# Altium footprint library PcbLib.PcbLib: 18 footprints (part 1 of 2)
Each footprint in its own frame and in the unit in brackets; x right, y up, seen from the top. Pads: shape width x height; smd on the part's side, far side on the other; paste and mask are expansions set on the pad; w line width, h text height; cw(c..) or ccw(c..) is an arc to the next point about the centre after c.
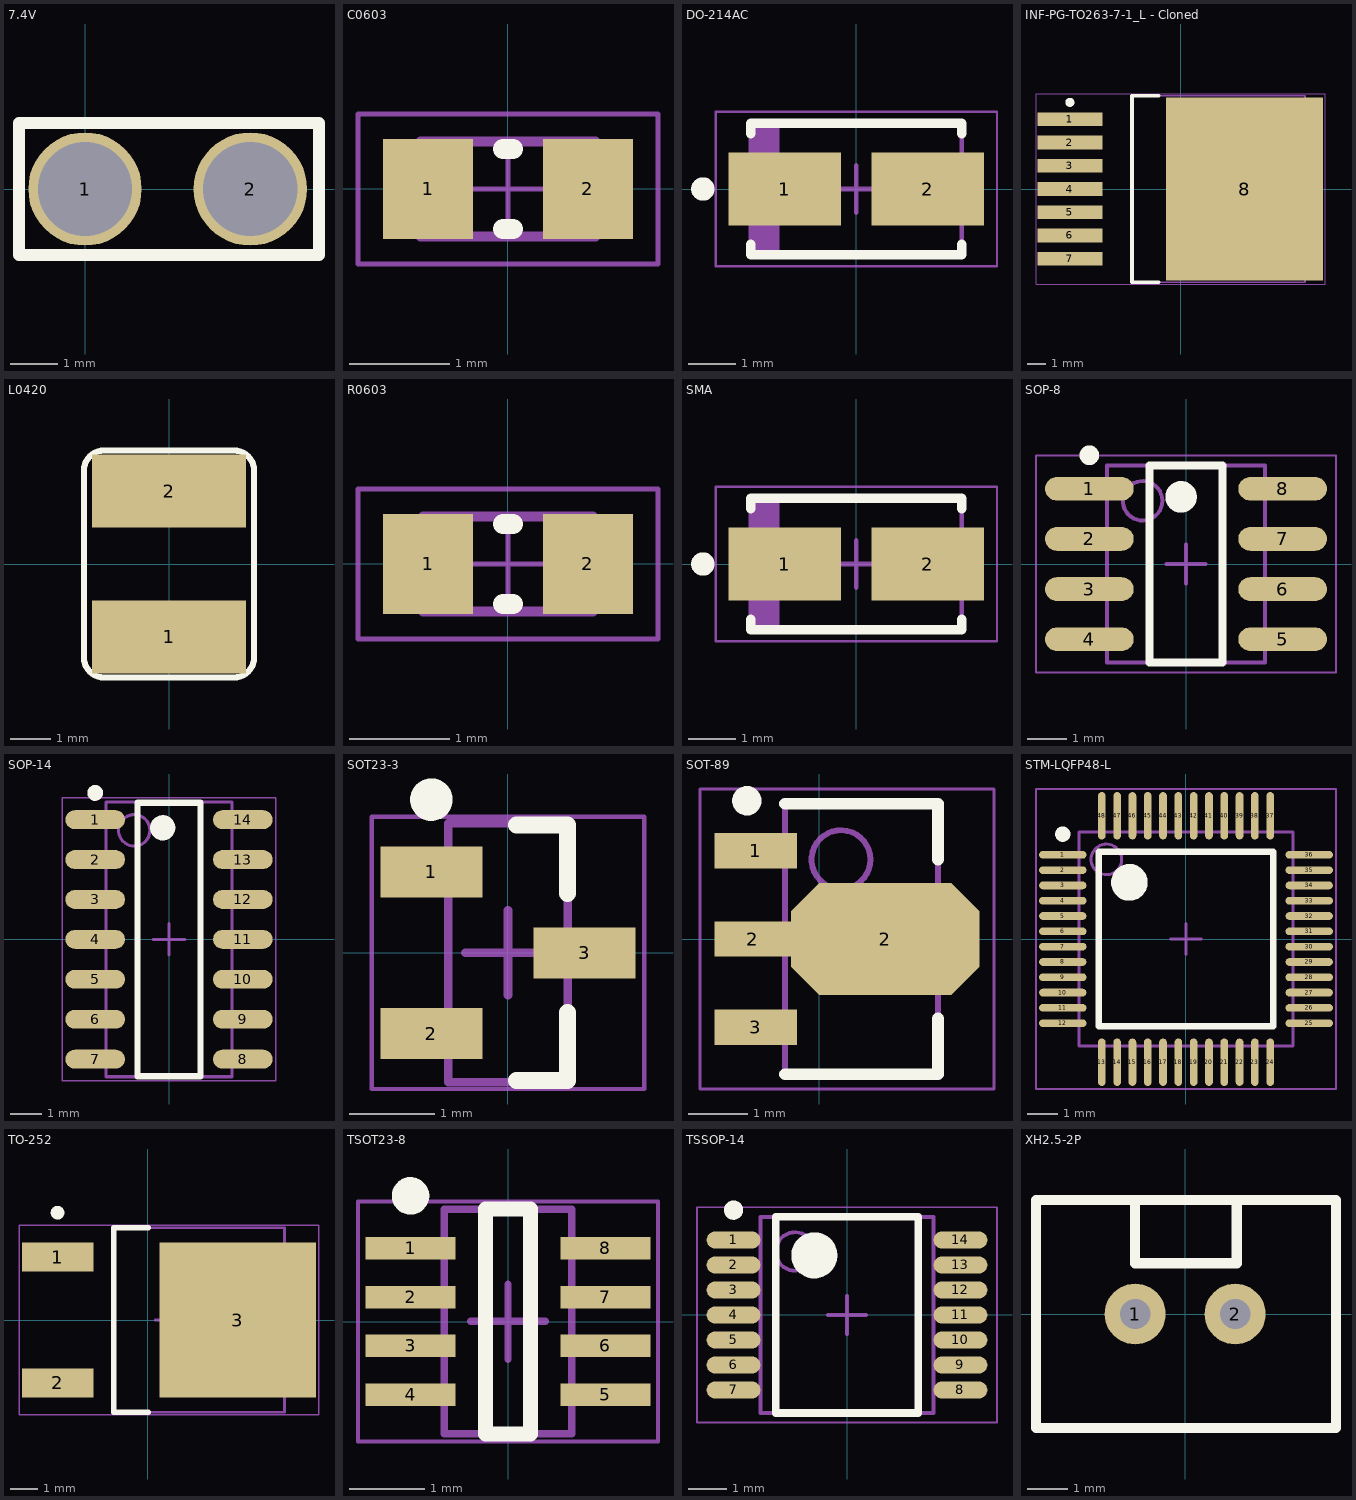
[diagram p0: the footprints below, top view; thin cyan lines are the x and y axes]

## 7.4V [mm]
pads (2):
  round 2.4 hole 2: 1(0,0) 2(3.5,0)
Top Overlay:
  lines w0.254: -1.397,-1.397 4.953,-1.397 4.953,1.397 -1.397,1.397 -1.397,-1.397

## C0603 [mm]
pads (2):
  rect 0.9x1 smd: 1(-0.8,0) 2(0.8,0)
Top Overlay:
  lines w0.2: -0.05,-0.4 0.05,-0.4 ; -0.05,0.4 0.05,0.4
Mechanical 13:
  lines w0.1: -0.875,-0.475 0.875,-0.475 0.875,0.475 -0.875,0.475 -0.875,-0.475
Mechanical 15:
  lines w0.05: -0.475,0 0.475,0 ; 0,-0.475 0,0.475 ; -1.5,-0.75 1.5,-0.75 1.5,0.75 -1.5,0.75 -1.5,-0.75
3D body: height 1, standoff 0, extent 0.525,-0.475 0.875,0.475
3D body: height 1, standoff 0, extent -0.875,-0.475 -0.525,0.475
3D body: height 1, standoff 0, extent -0.525,-0.475 0.525,0.475

## DO-214AC [mm] "DO-214AC, 2-Leads, Body 4.5x2.79mm, IPC Medium Density"
height 2.29
pads (2):
  rect 2.4x1.55 smd: 1(-1.525,0) 2(1.525,0)
Top Overlay:
  circle w0.25: c-3.275,0 r0.125
  lines w0.2: -2.25,-1.175 -2.25,-1.4 2.25,-1.4 2.25,-1.175 ; -2.25,1.175 -2.25,1.4 2.25,1.4 2.25,1.175
Mechanical 13:
  rectangle: -2.25,-1.395 -1.645,1.395
  lines w0.1: -2.25,-1.395 2.25,-1.395 2.25,1.395 -2.25,1.395 -2.25,-1.395
Mechanical 15:
  lines w0.05: -3,-1.65 3,-1.65 3,1.65 -3,1.65 -3,-1.65
  lines w0.1: -0.5,0 0.5,0 ; 0,-0.5 0,0.5
3D body: height 2.29, standoff 0, extent -2.25,-1.395 2.25,1.395

## INF-PG-TO263-7-1_L - Cloned [mm] "DPAK, 8-Leads, Body 10x9.25mm, Pitch 1.27mm, IPC High Density"
height 4.4
pads (8):
  rect 3.55x0.75 smd: 1(-6.05,3.81) 2(-6.05,2.54) 3(-6.05,1.27) 4(-6.05,0) 5(-6.05,-1.27) 6(-6.05,-2.54) 7(-6.05,-3.81)
  rect 8.6x10 smd: 8(3.5,0)
Top Overlay:
  circle w0.25: c-6.05,4.735 r0.125
  lines w0.2: -1.2,-5.1 -2.65,-5.1 -2.65,5.1 -1.2,5.1
Mechanical 13:
  lines w0.1: -2.65,-5.1 6.8,-5.1 6.8,5.1 -2.65,5.1 -2.65,-5.1
Mechanical 15:
  lines w0.05: -7.9,-5.2 7.9,-5.2 7.9,5.2 -7.9,5.2 -7.9,-5.2
  lines w0.1: -0.5,0 0.5,0 ; 0,-0.5 0,0.5
3D body: height 4.4, standoff 0.1, extent -2.65,-5.1 6.8,5.1

## L0420 [mm]
pads (2):
  rect 3.8x1.8 smd: 1(0,-1.8) 2(0,1.8)
Top Overlay:
  lines w0.152: -2.1,-2.3 ccw(c-1.6,-2.3) -1.6,-2.8 1.6,-2.8 ccw(c1.6,-2.3) 2.1,-2.3 2.1,2.3 ccw(c1.6,2.3) 1.6,2.8 -1.6,2.8 ccw(c-1.6,2.3) -2.1,2.3 -2.1,-2.3

## R0603 [mm]
pads (2):
  rect 0.9x1 smd: 1(-0.8,0) 2(0.8,0)
Top Overlay:
  lines w0.2: -0.05,-0.4 0.05,-0.4 ; -0.05,0.4 0.05,0.4
Mechanical 13:
  lines w0.1: -0.85,-0.475 0.85,-0.475 0.85,0.475 -0.85,0.475 -0.85,-0.475
Mechanical 15:
  lines w0.05: -0.475,0 0.475,0 ; 0,-0.475 0,0.475 ; -1.5,-0.75 1.5,-0.75 1.5,0.75 -1.5,0.75 -1.5,-0.75
3D body: height 0.6, standoff 0, extent -0.849,-0.474 -0.58,0.475
3D body: height 0.6, standoff 0, extent -0.58,-0.474 0.581,0.475
3D body: height 0.6, standoff 0, extent 0.581,-0.474 0.85,0.475

## SMA [mm] "DO-214AC, 2-Leads, Body 4.5x2.79mm, IPC Medium Density"
height 2.29
pads (2):
  rect 2.4x1.55 smd: 1(-1.525,0) 2(1.525,0)
Top Overlay:
  circle w0.25: c-3.275,0 r0.125
  lines w0.2: -2.25,-1.175 -2.25,-1.4 2.25,-1.4 2.25,-1.175 ; -2.25,1.175 -2.25,1.4 2.25,1.4 2.25,1.175
Mechanical 13:
  rectangle: -2.25,-1.395 -1.645,1.395
  lines w0.1: -2.25,-1.395 2.25,-1.395 2.25,1.395 -2.25,1.395 -2.25,-1.395
Mechanical 15:
  lines w0.05: -3,-1.65 3,-1.65 3,1.65 -3,1.65 -3,-1.65
  lines w0.1: -0.5,0 0.5,0 ; 0,-0.5 0,0.5
3D body: height 2.29, standoff 0, extent -2.25,-1.395 2.25,1.395

## SOP-8 [mm]
pads (8):
  oval 2.25x0.6 smd: 1(-2.45,1.905) 2(-2.45,0.635) 3(-2.45,-0.635) 4(-2.45,-1.905) 5(2.45,-1.905) 6(2.45,-0.635) 7(2.45,0.635) 8(2.45,1.905)
Top Overlay:
  circle w0.25: c-2.45,2.755 r0.125
  circle w0.4: c-0.125,1.7 r0.2
  lines w0.2: -0.925,-2.5 -0.925,2.5 0.925,2.5 0.925,-2.5 -0.925,-2.5
Mechanical 13:
  circle w0.1: c-1.1,1.6 r0.5
  lines w0.1: -2,-2.5 -2,2.5 2,2.5 2,-2.5 -2,-2.5
Mechanical 15:
  lines w0.05: -3.8,-2.75 -3.8,2.75 3.8,2.75 3.8,-2.75 -3.8,-2.75
  lines w0.1: -0.5,0 0.5,0 ; 0,-0.5 0,0.5
3D body: height 1.95, standoff 0.1, extent -2,-2.5 2,2.5

## SOP-14 [mm] "SOIC, 14-Leads, Body 8.6x3.9mm, Pitch 1.27mm, IPC High Density"
height 1.75
pads (14):
  oval 1.9x0.6 smd: 1(-2.35,3.81) 2(-2.35,2.54) 3(-2.35,1.27) 4(-2.35,0) 5(-2.35,-1.27) 6(-2.35,-2.54) 7(-2.35,-3.81) 8(2.35,-3.81) 9(2.35,-2.54) 10(2.35,-1.27) 11(2.35,0) 12(2.35,1.27) 13(2.35,2.54) 14(2.35,3.81)
Top Overlay:
  circle w0.25: c-2.35,4.66 r0.125
  circle w0.4: c-0.2,3.55 r0.2
  lines w0.2: -1,-4.35 -1,4.35 1,4.35 1,-4.35 -1,-4.35
Mechanical 13:
  circle w0.1: c-1.105,3.47 r0.5
  lines w0.1: -2.005,-4.37 -2.005,4.37 2.005,4.37 2.005,-4.37 -2.005,-4.37
Mechanical 15:
  lines w0.05: -3.4,-4.5 -3.4,4.5 3.4,4.5 3.4,-4.5 -3.4,-4.5
  lines w0.1: -0.5,0 0.5,0 ; 0,-0.5 0,0.5
3D body: height 1.75, standoff 0.1, extent -2.005,-4.37 2.005,4.37

## SOT23-3 [mm]
pads (3):
  rect 1.2x0.6 smd: 1(-0.9,0.95) 2(-0.9,-0.95) 3(0.9,0)
Top Overlay:
  circle w0.25: c-0.9,1.8 r0.125
  lines w0.2: 0.1,-1.5 0.7,-1.5 0.7,-0.7 ; 0.1,1.5 0.7,1.5 0.7,0.7
Mechanical 13:
  lines w0.1: -0.7,-1.52 -0.7,1.52 0.7,1.52 0.7,-1.52 -0.7,-1.52
Mechanical 15:
  lines w0.05: -1.6,-1.6 -1.6,1.6 1.6,1.6 1.6,-1.6 -1.6,-1.6
  lines w0.1: -0.5,0 0.5,0 ; 0,-0.5 0,0.5
3D body: height 1.12, standoff 0.01, extent -0.7,-1.52 0.7,1.52

## SOT-89 [mm]
pads (4):
  rect 1.4x0.6 smd: 1(-1.075,1.5) 3(-1.075,-1.5)
  rect 1.3x0.6 smd: 2(-1.125,0)
  oct 3.2x1.9 smd: 2(1.125,0)
Top Overlay:
  circle w0.25: c-1.228,2.35 r0.125
  lines w0.2: -0.577,-2.3 2.023,-2.3 2.023,-1.35 ; -0.577,2.3 2.023,2.3 2.023,1.35
Mechanical 13:
  circle w0.1: c0.373,1.35 r0.5
  lines w0.1: -0.577,-2.3 -0.577,2.3 2.023,2.3 2.023,-2.3 -0.577,-2.3
Mechanical 15:
  lines w0.05: -2.025,-2.55 -2.025,2.55 2.975,2.55 2.975,-2.55 -2.025,-2.55
  lines w0.1: 0.222,0 1.222,0 ; 0.723,-0.5 0.723,0.5
3D body: height 1.6, standoff 0, extent -0.577,-2.3 2.023,2.3

## STM-LQFP48-L [mm]
pads (48):
  oval 1.55x0.25 smd: 1(-4.025,2.75) 2(-4.025,2.25) 3(-4.025,1.75) 4(-4.025,1.25) 5(-4.025,0.75) 6(-4.025,0.25) 7(-4.025,-0.25) 8(-4.025,-0.75) 9(-4.025,-1.25) 10(-4.025,-1.75) 11(-4.025,-2.25) 12(-4.025,-2.75) 25(4.025,-2.75) 26(4.025,-2.25) 27(4.025,-1.75) 28(4.025,-1.25) 29(4.025,-0.75) 30(4.025,-0.25) 31(4.025,0.25) 32(4.025,0.75) 33(4.025,1.25) 34(4.025,1.75) 35(4.025,2.25) 36(4.025,2.75)
  oval 0.25x1.55 smd: 13(-2.75,-4.025) 14(-2.25,-4.025) 15(-1.75,-4.025) 16(-1.25,-4.025) 17(-0.75,-4.025) 18(-0.25,-4.025) 19(0.25,-4.025) 20(0.75,-4.025) 21(1.25,-4.025) 22(1.75,-4.025) 23(2.25,-4.025) 24(2.75,-4.025) 37(2.75,4.025) 38(2.25,4.025) 39(1.75,4.025) 40(1.25,4.025) 41(0.75,4.025) 42(0.25,4.025) 43(-0.25,4.025) 44(-0.75,4.025) 45(-1.25,4.025) 46(-1.75,4.025) 47(-2.25,4.025) 48(-2.75,4.025)
Top Overlay:
  circle w0.25: c-4.025,3.425 r0.125
  circle w0.6: c-1.85,1.85 r0.3
  lines w0.2: -2.85,-2.85 -2.85,2.85 2.85,2.85 2.85,-2.85 -2.85,-2.85
Mechanical 13:
  circle w0.1: c-2.6,2.6 r0.5
  lines w0.1: -3.5,-3.5 -3.5,3.5 3.5,3.5 3.5,-3.5 -3.5,-3.5
Mechanical 15:
  lines w0.05: -4.9,-4.9 -4.9,4.9 4.9,4.9 4.9,-4.9 -4.9,-4.9
  lines w0.1: -0.5,0 0.5,0 ; 0,-0.5 0,0.5
3D body: height 1.6, standoff 0.05, extent -3.5,-3.5 3.5,3.5

## TO-252 [mm]
pads (3):
  rect 2.6x1.06 smd: 1(-3.275,2.286) 2(-3.275,-2.286)
  rect 5.7x5.632 smd: 3(3.275,0)
Top Overlay:
  circle w0.25: c-3.275,3.9 r0.125
  lines w0.2: 0.025,-3.35 -1.225,-3.35 -1.225,3.35 0.025,3.35
Mechanical 13:
  lines w0.1: -1.225,-3.35 4.975,-3.35 4.975,3.35 -1.225,3.35 -1.225,-3.35
Mechanical 15:
  lines w0.05: -4.675,-3.45 6.225,-3.45 6.225,3.45 -4.675,3.45 -4.675,-3.45
  lines w0.1: 0.275,0 1.275,0 ; 0.775,-0.5 0.775,0.5
3D body "DPAK229P991X239-3L.step": height 2.39, standoff 0, extent -3.855,-3.35 6.05,3.35

## TSOT23-8 [mm]
pads (8):
  rect 1.2x0.3 smd: 1(-1.3,0.975) 2(-1.3,0.325) 3(-1.3,-0.325) 4(-1.3,-0.975) 5(1.3,-0.975) 6(1.3,-0.325) 7(1.3,0.325) 8(1.3,0.975)
Top Overlay:
  circle w0.25: c-1.3,1.675 r0.125
  lines w0.2: -0.3,-1.5 0.3,-1.5 0.3,1.5 -0.3,1.5 -0.3,-1.5
Mechanical 13:
  lines w0.1: -0.85,-1.5 0.85,-1.5 0.85,1.5 -0.85,1.5 -0.85,-1.5
Mechanical 15:
  lines w0.05: -2,-1.6 2,-1.6 2,1.6 -2,1.6 -2,-1.6
  lines w0.1: -0.5,0 0.5,0 ; 0,-0.5 0,0.5
3D body "TSOP65P280X100-8L.step": height 1, standoff 0, extent -1.4,-1.5 1.4,1.5

## TSSOP-14 [mm] "SOP, 14-Leads, Body 5.1x4.5mm, Pitch 0.65mm, IPC Medium Density"
height 1.2
pads (14):
  oval 1.4x0.45 smd: 1(-2.95,1.95) 2(-2.95,1.3) 3(-2.95,0.65) 4(-2.95,0) 5(-2.95,-0.65) 6(-2.95,-1.3) 7(-2.95,-1.95) 8(2.95,-1.95) 9(2.95,-1.3) 10(2.95,-0.65) 11(2.95,0) 12(2.95,0.65) 13(2.95,1.3) 14(2.95,1.95)
Top Overlay:
  circle w0.25: c-2.95,2.725 r0.125
  circle w0.6: c-0.85,1.55 r0.3
  lines w0.2: -1.85,-2.55 -1.85,2.55 1.85,2.55 1.85,-2.55 -1.85,-2.55
Mechanical 13:
  circle w0.1: c-1.35,1.65 r0.5
  lines w0.1: -2.25,-2.55 -2.25,2.55 2.25,2.55 2.25,-2.55 -2.25,-2.55
Mechanical 15:
  lines w0.05: -3.9,-2.8 -3.9,2.8 3.9,2.8 3.9,-2.8 -3.9,-2.8
  lines w0.1: -0.5,0 0.5,0 ; 0,-0.5 0,0.5
3D body "PW0014AakaMTC14.stp": height 1, standoff 0, extent -3.21,-2.5 3.21,2.5

## XH2.5-2P [mil]
pads (2):
  round 60 hole 30: 1(-49.21,0) 2(49.21,0)
Top Overlay:
  lines w10: -49.21,112.2 -49.21,50 50.79,50 50.79,112.2 ; 148.43,-112.2 -146.85,-112.2 -146.85,112.2 148.58,112.2 ; 148.43,-109.84 148.43,112.05
3D body "JS-1132-2.STEP": height 236.22, standoff -98.43, extent -108.62,-64.8 115.79,84.8